# Altium footprint library Switches.PcbLib: 1 footprints
Each footprint in its own frame and in the unit in brackets; x right, y up, seen from the top. Pads: shape width x height; smd on the part's side, far side on the other; paste and mask are expansions set on the pad; w line width, h text height; cw(c..) or ccw(c..) is an arc to the next point about the centre after c.
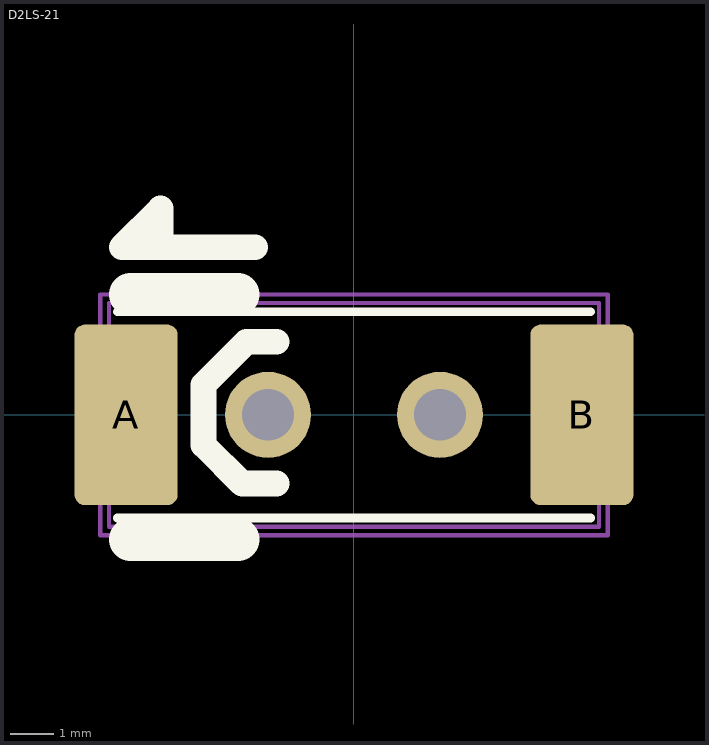
[diagram p0: the footprint, top view; thin cyan lines are the x and y axes]

## D2LS-21 [mm]
height 3
pads (4):
  rrect20% 2.4x4.2 smd paste-0.03: A(-5.3,0) B(5.3,0)
  round 2 hole 1.2: ""(-2,0) ""(2,0)
Top Overlay:
  lines w0.2: -5.5,-2.4 5.5,-2.4 ; -5.5,2.4 5.5,2.4
  lines w0.6: -4.5,3.9 -4.5,4.8 -5.4,3.9 -2.3,3.9 ; -1.8,-1.6 -2.6,-1.6 -3.5,-0.7 -3.5,0.7 -2.5,1.7 -1.8,1.7
  lines w1: -5.2,-2.9 -2.7,-2.9 ; -5.2,2.8 -2.7,2.8
Mechanical 15:
  lines w0.1: -5.9,-2.8 5.9,-2.8 5.9,2.8 -5.9,2.8 -5.9,-2.8
Assembly:
  lines w0.1: -5.7,-2.6 -5.7,2.6 5.7,2.6 5.7,-2.6 -5.7,-2.6
  text ".Designator" at -5,-0.3 h1.1
3D body "D2LS_21.step": height 3.19, standoff -0.6, extent -5.6,-2.4 5.6,2.4
3D body: height 0.25, standoff 0, extent 0,0 0,0